# Altium integrated library TPS5430DDA.IntLib: 1 symbol
Pins are listed as number, name and electrical type; pins without a type are passive.

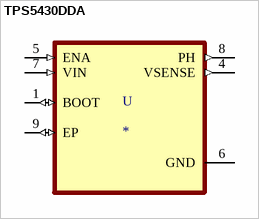
[diagram p0: symbol TPS5430DDA]

## TPS5430DDA
designator U
5.5Vè‡³36Vè¾“å…¥ï¼Œ3Aï¼Œ500kHzé™åŽ‹è½¬æ¢å™¨; MF: Texas Instruments; MP: TPS5430DDA; Availability: Unavailable; Value: *; Mouser-Purchase-URL: https://snapeda.com/shop?store=Mouser&id=226174; Texas_Instruments-Purchase-URL: https://snapeda.com/shop?store=Texas+Instruments&id=226174; Package: HSOIC-8 Texas Instruments; DigiKey-Purchase-URL: https://snapeda.com/shop?store=DigiKey&id=226174; Price: None; SnapEDA_Link: https://www.snapeda.com/parts/TPS5430DDA/Texas%20Instruments/view-part/226174/?ref=snap
footprint VREG_LM5017MR/NOPB
pins: 1 BOOT (io), 4 VSENSE (out), 5 ENA (in), 6 GND (power), 7 VIN (in), 8 PH (out), 9 EP (io)